# Altium footprint library bujindj.PcbLib: 1 footprints
Each footprint in its own frame and in the unit in brackets; x right, y up, seen from the top. Pads: shape width x height; smd on the part's side, far side on the other; paste and mask are expansions set on the pad; w line width, h text height; cw(c..) or ccw(c..) is an arc to the next point about the centre after c.
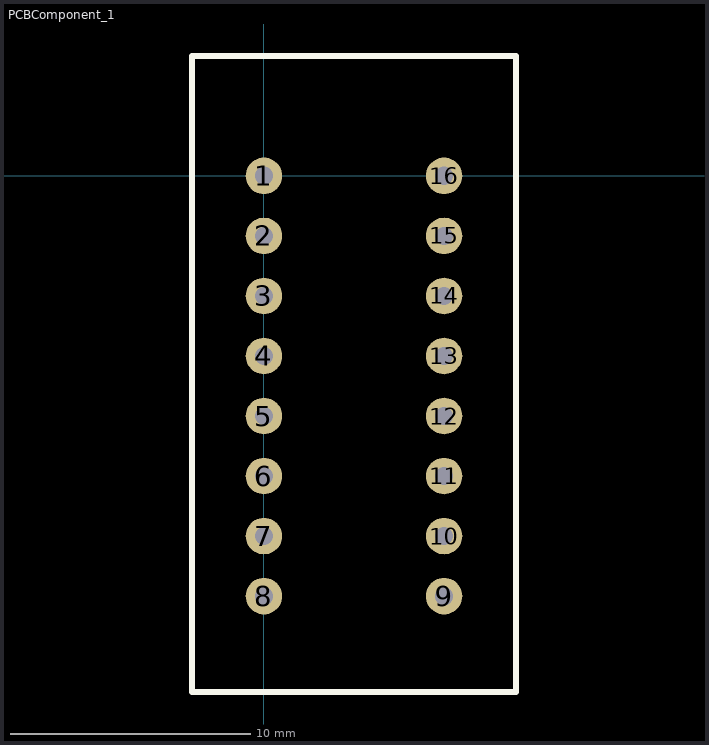
[diagram p0: the footprint, top view; thin cyan lines are the x and y axes]

## PCBComponent_1 [mil]
pads (16):
  round 60 hole 30: 1(0,0) 2(0,-98.43) 3(0,-196.85) 4(0,-295.28) 5(0,-393.7) 6(0,-492.13) 7(0,-590.55) 8(0,-688.98) 9(295.28,-688.98) 10(295.28,-590.55) 11(295.28,-492.13) 12(295.28,-393.7) 13(295.28,-295.28) 14(295.28,-196.85) 15(295.28,-98.43) 16(295.28,0)
Top Overlay:
  lines w10: -118.11,-846.46 413.39,-846.46 413.39,196.85 -118.11,196.85 -118.11,-846.46